# Altium schematic symbol library DSC1123CI1-027P0000.SchLib: 2 symbols
Pins are listed as number, name and electrical type; pins without a type are passive.

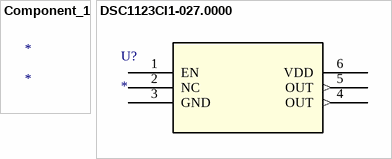
[diagram p0: symbols Component_1 to DSC1123CI1-027.0000]

## Component_1
designator *

## DSC1123CI1-027.0000
designator U?
No Description Available; Mfr_Name: Microchip; RefDes: RefDes; Type: Type
footprint VDFN6_3P2X2P5_MCH
pins: 1 EN, 2 NC, 3 GND (power), 4 OUT (out), 5 OUT (out), 6 VDD (power)